# Altium footprint library G2RL1.PcbLib: 1 footprints
Each footprint in its own frame and in the unit in brackets; x right, y up, seen from the top. Pads: shape width x height; smd on the part's side, far side on the other; paste and mask are expansions set on the pad; w line width, h text height; cw(c..) or ccw(c..) is an arc to the next point about the centre after c.
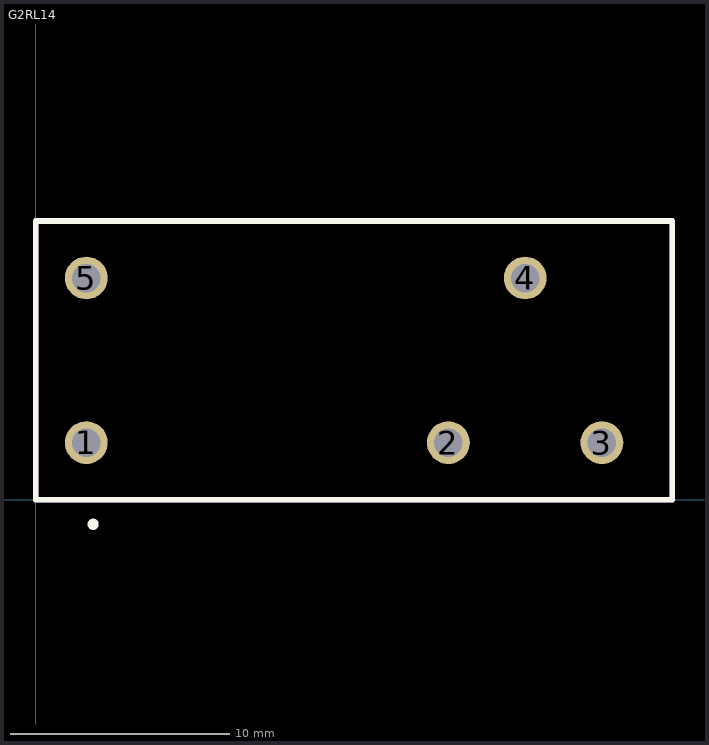
[diagram p0: the footprint, top view; thin cyan lines are the x and y axes]

## G2RL14 [mm]
pads (5):
  round 1.95 hole 1.3: 1(2.3,2.6) 2(18.8,2.6) 3(25.8,2.6) 4(22.3,10.1) 5(2.3,10.1)
L26-Silk Screen Top (Multiple PADS layers...):
  circle w0.254: c2.613,-1.122 r0.125
  lines w0.254: 0,0 0,12.7 29,12.7 29,0 0,0
L15 (Multiple PADS layers...):
  lines w0.254: 0,0 29,0 29,12.7 0,12.7 0,0
3D body "G2RL_1.step": height 15.31, standoff -3.89, extent -0.022,0 28.978,12.7